# Altium schematic symbol library Schlib1.SchLib: 16 symbols
Pins are listed as number, name and electrical type; pins without a type are passive.

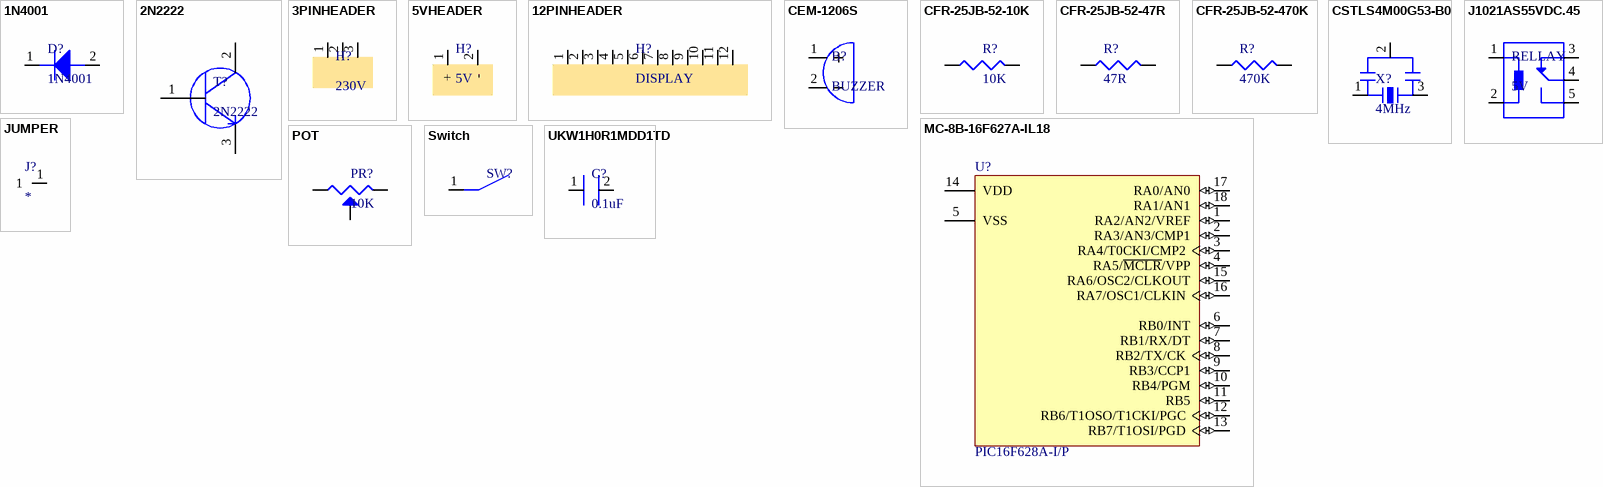
[diagram p0: symbols 1N4001 to UKW1H0R1MDD1TD]

## 1N4001
designator D?
Diode Standard 50 V 1A Through Hole DO-204AL (DO-41)
footprint DIODE; pin to pad 1>K 2>A
pins: 1, 2

## 2N2222
designator T?
TRANS NPN 30V 0.8A TO18; Manufacturer: ON Semiconductor / Fairchild; Supplier 1: Digi-Key; Manufacturer Part Number: 2N2222; RoHS: No; Category: BJTs; Case/Package: TO-18; Number of Pins: 3; Packaging: Bulk; Lead Free: Contains Lead; RoHS Compliant: No; ComponentLink1URL: https://datasheet.ciiva.com/14850/38228mot-14850663.pdf?src-supplier=Arrow+Electronics; ComponentLink1Description: https://datasheet.ciiva.com/14850/38228mot-14850663.pdf?src-supplier=Arrow+Electronics; Supplier Part Number 1: 2N2222-DIE-ND
footprint 2N2222
pins: 1, 2, 3

## 3PINHEADER
designator H?, comment 230V
footprint 3PINHEADER
pins: 1, 2, 3

## 5VHEADER
designator H?, comment 5V
footprint 2PINHEADER
pins: 1 +, 2 -

## 12PINHEADER
designator H?, comment DISPLAY
footprint 12PINHEADER
pins: 1, 2, 3, 4, 5, 6, 7, 8, 9, 10, 11, 12

## CEM-1206S
designator B?, comment BUZZER
12 mm, 5 V, 85 dB, Through Hole, Sealed, Magnetic Audio Transducer Buzzer; Manufacturer: CUI; Manufacturer Part Number: CEM-1206S; Voltage Rating: 5V; Operating Supply Current: 45mA; Frequency: 2.4kHz; Washable: Yes; Supplier 1: Future Electronics; RoHS: Yes; Category: Audio Products; Mount: Through Hole; Case/Package: Radial; Min Operating Temperature: -30°C; Max Operating Temperature: 70°C; Packaging: Bulk; Termination: PC Pins; Sensing Method: Magnetic; Self Resonant Frequency: 2.4kHz; Diameter: 12mm; Height: 10mm; Lead Free: Lead Free; ComponentLink1URL: http://www.mouser.com/ds/2/670/cem-1206s-515977.pdf?src-supplier=Mouser; ComponentLink1Description: http://www.mouser.com/ds/2/670/cem-1206s-515977.pdf?src-supplier=Mouser; ComponentLink2URL: https://www.cui.com/product/resource/digikeypdf/cem-1206s.pdf?src-supplier=Digi-Key; ComponentLink2Description: https://www.cui.com/product/resource/digikeypdf/cem-1206s.pdf?src-supplier=Digi-Key; Supplier Part Number 1: CEM-1206S-TRAY
footprint BUZZER
pins: 1, 2

## CFR-25JB-52-10K
designator R?, comment 10K
RES 10K OHM 5% 1/2W AXIAL; Manufacturer: Yageo; Manufacturer Part Number: CFR-25JB-52-10K; Resistance: 10kR; Temperature Coefficient: 500ppm/°C; Max Power Dissipation: 250mW; Supplier 1: Digi-Key; RoHS: Yes; Category: Through-Hole Resistors; Stock 1: 199228; Pricing 1: 1=0.10000, 10=0.06800, 25=0.04680, 50=0.03640, 100=0.02600, 250=0.02028, 500=0.01612, 1000=0.01144, 5000=0.00884 (USD); Case/Package: Axial; Min Operating Temperature: -55°C; Max Operating Temperature: 155°C; Package Quantity: 200; Packaging: Bulk; Tolerance: 5%; Resistor Type: Carbon Film; Number of Terminations: 2; Series: Carbon Film; Length: 0.248inch; RoHS Compliant: Yes; Lead Free: Lead Free; ComponentLink1URL: http://www.yageo.com/NewPortal/yageodocoutput?fileName=/pdf/throughhole/Yageo_LR_CFR_2013.pdf&src-supplier=Digi-Key; ComponentLink1Description: http://www.yageo.com/NewPortal/yageodocoutput?fileName=/pdf/throughhole/Yageo_LR_CFR_2013.pdf&src-supplier=Digi-Key; Supplier Part Number 1: 10KQBK-ND
footprint RESI
pins: 1, 2

## CFR-25JB-52-47R
designator R?, comment 47R
RES 47 OHM 5% 1/4W AXIAL; Manufacturer: Yageo; Manufacturer Part Number: CFR-25JB-52-47R; Temperature Coefficient: 500ppm/°C; Max Power Dissipation: 250mW; Supplier 1: Digi-Key; RoHS: Yes; Category: Through-Hole Resistors; Stock 1: 40208; Pricing 1: 1=0.10000, 10=0.06800, 25=0.04680, 50=0.03640, 100=0.02600, 250=0.02028, 500=0.01612, 1000=0.01144, 5000=0.00884 (USD); Case/Package: Axial; Min Operating Temperature: -55°C; Max Operating Temperature: 155°C; Package Quantity: 200; Packaging: Bulk; Resistance: 47R; Tolerance: 5%; Resistor Type: Carbon Film; Number of Terminations: 2; Series: Carbon Film; Length: 0.248inch; Lead Free: Lead Free; RoHS Compliant: Yes; ComponentLink1URL: http://www.yageo.com/NewPortal/yageodocoutput?fileName=/pdf/throughhole/Yageo_LR_CFR_2013.pdf&src-supplier=Digi-Key; ComponentLink1Description: http://www.yageo.com/NewPortal/yageodocoutput?fileName=/pdf/throughhole/Yageo_LR_CFR_2013.pdf&src-supplier=Digi-Key; Supplier Part Number 1: 47QBK-ND
footprint RESI
pins: 1, 2

## CFR-25JB-52-470K
designator R?, comment 470K
RES 470K OHM 5% 1/4W AXIAL; Manufacturer: Yageo; Manufacturer Part Number: CFR-25JB-52-470K; Resistance: 470kR; Power Rating: 250mW; Temperature Coefficient: -700ppm/°C; Supplier 1: Digi-Key; RoHS: Yes; Category: Through-Hole Resistors; Stock 1: 7377; Pricing 1: 1=0.10000, 10=0.06800, 25=0.04680, 50=0.03640, 100=0.02600, 250=0.02028, 500=0.01612, 1000=0.01144, 5000=0.00884 (USD); Case/Package: Axial; Min Operating Temperature: -55°C; Max Operating Temperature: 155°C; Tolerance: 5%; Package Quantity: 200; Packaging: Bulk; Resistor Type: Carbon Film; Number of Terminations: 2; Max Power Dissipation: 250mW; Series: Carbon Film; Length: 0.248inch; Lead Free: Lead Free; RoHS Compliant: Yes; ComponentLink1URL: http://www.yageo.com/NewPortal/yageodocoutput?fileName=/pdf/throughhole/Yageo_LR_CFR_2013.pdf&src-supplier=Digi-Key; ComponentLink1Description: http://www.yageo.com/NewPortal/yageodocoutput?fileName=/pdf/throughhole/Yageo_LR_CFR_2013.pdf&src-supplier=Digi-Key; ComponentLink2URL: http://www.yageo.com/documents/recent/General%20Type_CFR.pdf?src-supplier=Future+Electronics; ComponentLink2Description: http://www.yageo.com/documents/recent/General%20Type_CFR.pdf?src-supplier=Future+Electronics; Supplier Part Number 1: 470KQBK-ND
footprint RESI
pins: 1, 2

## CSTLS4M00G53-B0
designator X?, comment 4MHz
CER RES 4.0000MHZ 15PF T/H; Manufacturer: Murata; Manufacturer Part Number: CSTLS4M00G53-B0; Frequency Tolerance: 0.5%; Impedance: 30R; Frequency Stability: 0.2%; Supplier 1: Digi-Key; RoHS: Yes; Category: Capacitors; Stock 1: 14887; Pricing 1: 1=0.20000, 10=0.16300, 50=0.14640, 100=0.13010, 500=0.12358, 1000=0.10407, 2500=0.09757, 5000=0.09431, 10000=0.09106 (USD); Mount: Through Hole; Case/Package: Radial; Number of Pins: 3; Contact Plating: Copper,Tin; Min Operating Temperature: -20°C; Max Operating Temperature: 80°C; Package Quantity: 500; Frequency: 4MHz; Capacitance: 15pF; Packaging: Bulk; Self Resonant Frequency: 4MHz; Load Capacitance: 15pF; Tolerance: 0.5%; Resistor Type: Ceramic; Termination: Through Hole; Series: CERALOCK®; Operating Frequency: 4 MHz; Length: 0.315inch; Width: 0.118inch; Height: 0.236inch; REACH SVHC: No SVHC; Lead Free: Lead Free; RoHS Compliant: Yes; ComponentLink1URL: https://datasheet.ciiva.com/19454/1852096-19454652.pdf?src-supplier=Jameco; ComponentLink1Description: https://datasheet.ciiva.com/19454/1852096-19454652.pdf?src-supplier=Jameco; ComponentLink2URL: https://datasheet.ciiva.com/18026/getdatasheetpartid-104166-18026389.pdf?src-supplier=Verical; ComponentLink2Description: https://datasheet.ciiva.com/18026/getdatasheetpartid-104166-18026389.pdf?src-supplier=Verical; ComponentLink3URL: https://datasheet.ciiva.com/46434/45562-46434823.pdf?src-supplier=Element14; ComponentLink3Description: https://datasheet.ciiva.com/46434/45562-46434823.pdf?src-supplier=Element14; ComponentLink4URL: https://datasheet.ciiva.com/884/p16e-884528.pdf?src-supplier=Digi-Key; ComponentLink4Description: https://datasheet.ciiva.com/884/p16e-884528.pdf?src-supplier=Digi-Key; ComponentLink5URL: https://datasheet.ciiva.com/16427/p16e-16427178.pdf?src-supplier=Future+Electronics; ComponentLink5Description: https://datasheet.ciiva.com/16427/p16e-16427178.pdf?src-supplier=Future+Electronics; Supplier Part Number 1: 490-1208-ND
footprint RES 4MHz
pins: 1, 2, 3

## J1021AS55VDC.45
designator RELLAY, comment 5V
RELAY GEN PURPOSE SPST 5A 5V; Manufacturer: CIT Relay & Switch; Manufacturer Part Number: J1021AS55VDC.45; Supplier 1: Digi-Key; RoHS: No; Stock 1: 1912; Pricing 1: 1=1.06000, 10=0.99200, 25=0.88200, 50=0.83800, 100=0.79380, 250=0.70560, 450=0.66151, 950=0.61740, 9800=0.58653 (USD); Supplier Part Number 1: 2449-J1021AS55VDC.45-ND
footprint Relay
pins: 1, 2, 3 (power), 4 (power), 5 (power)

## JUMPER
designator J?
footprint JUMPER
pins: 1

## MC-8B-16F627A-IL18
designator U?, comment PIC16F628A-I/P
FLASH-Based 8-Bit CMOS Microcontroller with nanoWatt Technology, 2K (x14-Bit words) FLASH, 224 Bytes SRAM, 18-Pin PDIP, 3.0 to 5.5V Supply Range, Industrial Temperature; DatasheetVersion: revF, Mar-2007; PackageReference: PDIP300-P18; PackageDescription: 18-Lead Plastic Dual In-Line (P) - 300 mil Body [PDIP]; PackageVersion: revBB, Aug-2009; Code_JEDEC: MS-001
footprint PDIP300-P18 (DIP, 18-Pin, Row Spacing 7.62 mm, Pitch 2.54 mm)
pins: 1 RA2/AN2/VREF (io), 2 RA3/AN3/CMP1 (io), 3 RA4/T0CKI/CMP2 (io), 4 RA5/~{MCLR}/VPP (io), 5 VSS (power), 6 RB0/INT (io), 7 RB1/RX/DT (io), 8 RB2/TX/CK (io), 9 RB3/CCP1 (io), 10 RB4/PGM (io), 11 RB5 (io), 12 RB6/T1OSO/T1CKI/PGC (io), 13 RB7/T1OSI/PGD (io), 14 VDD (power), 15 RA6/OSC2/CLKOUT (io), 16 RA7/OSC1/CLKIN (io), 17 RA0/AN0 (io), 18 RA1/AN1 (io)

## POT
designator PR?, comment 10K
CARBON PRESET HA 06 SM065 10K 30
footprint POT
pins: 1, 2, 3

## Switch
designator SW?, comment switch  (value not drawn)
SWITCH PUSH SPST-NO 16A 125V
footprint SW
pins: 1

## UKW1H0R1MDD1TD
designator C?, comment 0.1uF
Cap Alum 0.1UF 20% 50V Radial; Manufacturer: Nichicon; Manufacturer Part Number: UKW1H0R1MDD1TD; Capacitance: 100nF; Ripple Current: 1.1mA; Life (Hours): 2000Hour; Supplier 1: Digi-Key; RoHS: Yes; Category: Aluminum Electrolytic Capacitors; Stock 1: 3707; Pricing 1: 1=0.39000, 10=0.26600, 50=0.17720, 100=0.15050, 500=0.10626, 1000=0.09298 (USD); Mount: Through Hole; Case/Package: Radial; Min Operating Temperature: -40°C; Max Operating Temperature: 85°C; Package Quantity: 1; Packaging: Cut Tape; Tolerance: 20%; Voltage Rating: 50V; Lead Pitch: 0.079inch; Height - Seated (Max): 0.492inch; RoHS Compliant: Yes; ComponentLink1URL: https://datasheet.ciiva.com/29550/e-kw-29550927.pdf?src-supplier=Digi-Key; ComponentLink1Description: https://datasheet.ciiva.com/29550/e-kw-29550927.pdf?src-supplier=Digi-Key; Supplier Part Number 1: 493-10793-1-ND
footprint CAP0.1uF
pins: 1, 2